# Altium footprint library Discrete.PcbLib: 34 footprints (part 2 of 3)
Each footprint in its own frame and in the unit in brackets; x right, y up, seen from the top. Pads: shape width x height; smd on the part's side, far side on the other; paste and mask are expansions set on the pad; w line width, h text height; cw(c..) or ccw(c..) is an arc to the next point about the centre after c.
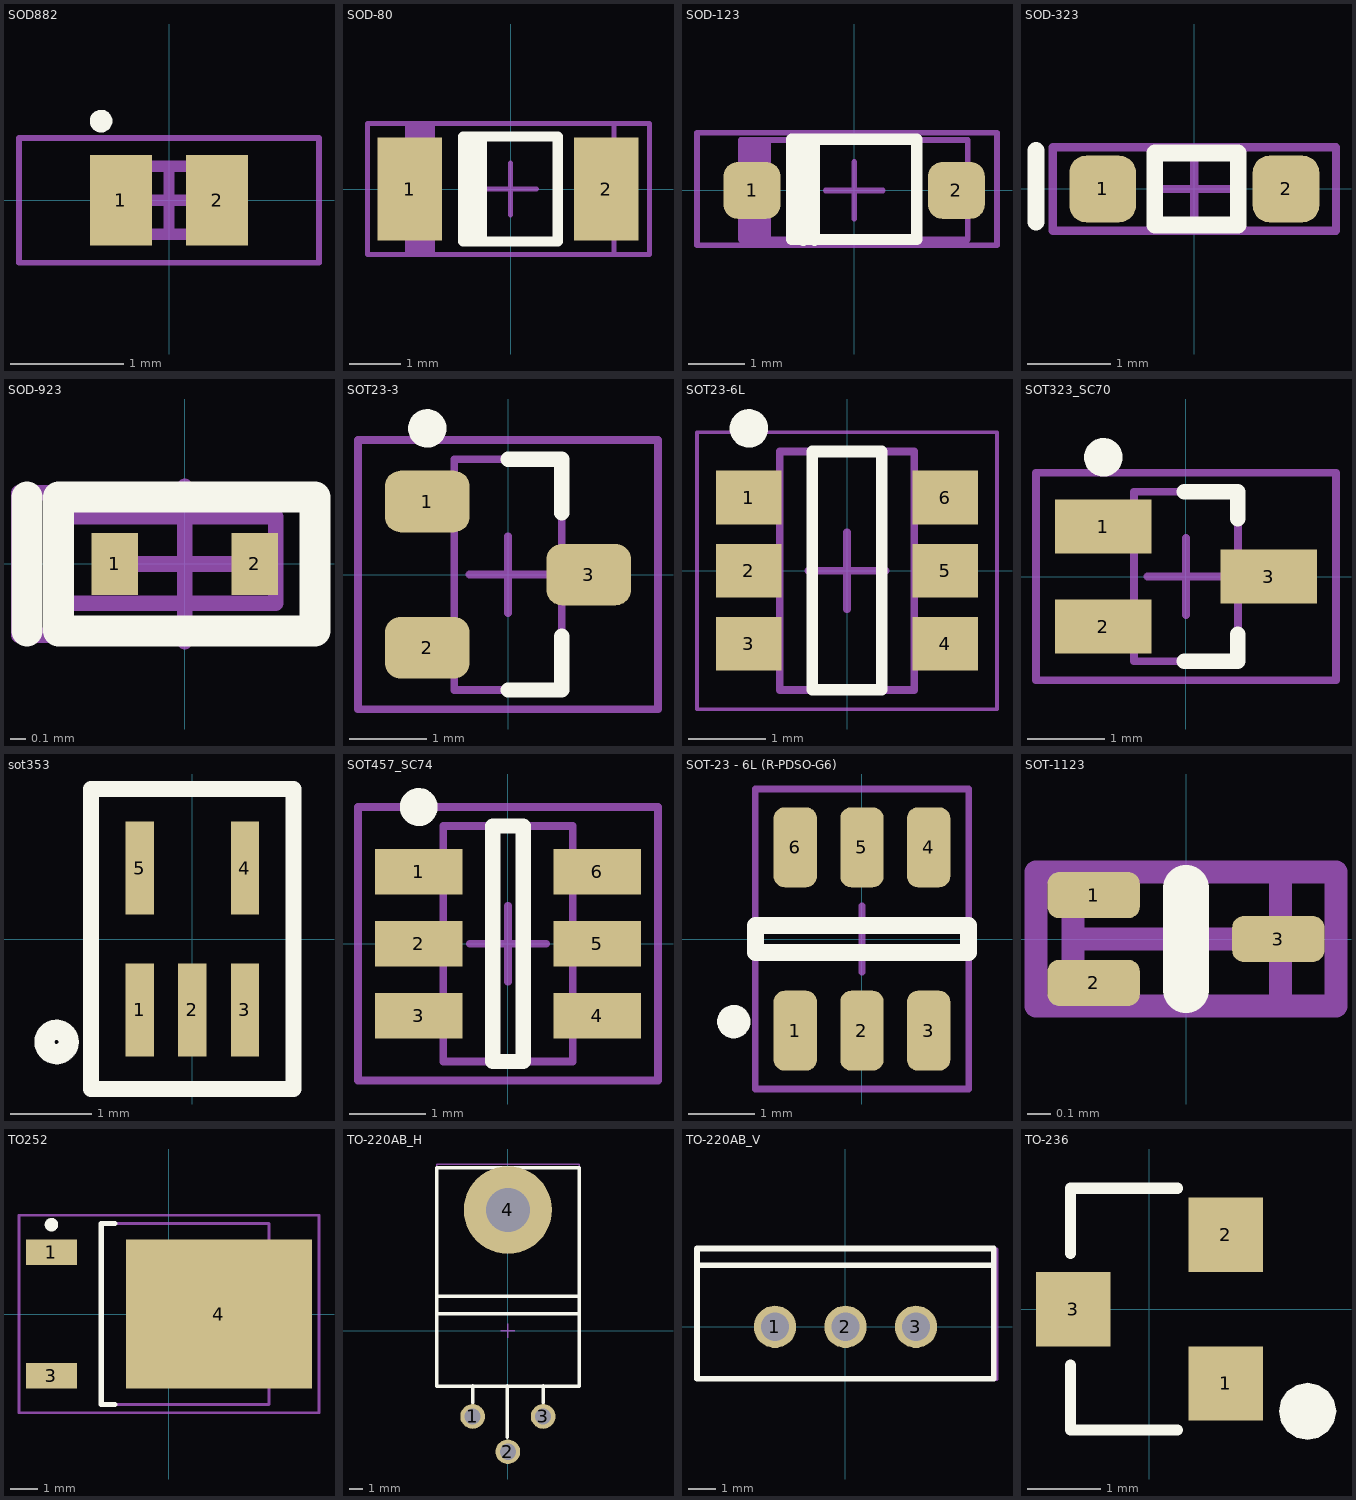
[diagram p1: the footprints below, top view; thin cyan lines are the x and y axes]

## SOD882 [mm] "SP3031 Series 0.8pF 10kV unidirectional Discrete TVS"
height 0.5
pads (2):
  rect 0.55x0.8 smd: 1(-0.425,0) 2(0.425,0)
Top Overlay:
  circle w0.1: c-0.6,0.7 r0.05
Mechanical 13:
  rectangle: -0.5,-0.3 -0.366,0.3
  lines w0.1: -0.5,-0.3 0.5,-0.3 0.5,0.3 -0.5,0.3 -0.5,-0.3
Mechanical 15:
  lines w0.05: -1.325,-0.55 1.325,-0.55 1.325,0.55 -1.325,0.55 -1.325,-0.55
  lines w0.1: -0.3,0 0.3,0 ; 0,-0.3 0,0.3
3D body: height 0.5, standoff 0, extent -0.5,-0.3 0.5,0.3

## SOD-80 [mm] "SOD-80"
height 2.29
pads (2):
  rect 1.25x2 smd: 1(-1.956,0) 2(1.854,0)
Top Overlay:
  lines w0.2: -0.711,-1.016 -0.711,1.016 ; -0.559,-1.016 -0.559,1.016 ; -0.914,-1.016 -0.914,1.016 0.914,1.016 0.914,-1.016 -0.914,-1.016
Mechanical 13:
  rectangle: -2,-1.27 -1.462,1.27
  lines w0.1: -2,-1.27 2,-1.27 2,1.27 -2,1.27 -2,-1.27
  text ".Designator" at -1.949,-0.244 h1.02
Mechanical 15:
  lines w0.1: -0.5,0 0.5,0 ; 0,-0.5 0,0.5 ; -2.769,-1.27 2.692,-1.27 2.692,1.27 -2.769,1.27 -2.769,-1.27
3D body: height 0.77, standoff -0.77, extent -1.727,-0.803 1.626,0.737

## SOD-123 [mm] "SOD-123"
height 2.29
pads (2):
  rrect50% 1x1 smd: 1(-1.8,0) 2(1.8,0)
Top Overlay:
  lines w0.2: -0.9,-0.882 -0.9,0.882 ; -0.7,-0.882 -0.7,0.882 ; -1.1,-0.864 -1.1,0.9 1.1,0.9 1.1,-0.864 -1.1,-0.864
Mechanical 13:
  rectangle: -2,-0.864 -1.462,0.862
  lines w0.1: -2,-0.864 -2,0.889 2,0.889 2,-0.864 -2,-0.864
  text ".Designator" at -2,-0.1 h0.5
Mechanical 15:
  lines w0.1: -0.5,0 0.5,0 ; 0,-0.5 0,0.5 ; -2.769,-0.965 -2.769,1.016 2.515,1.016 2.515,-0.965 -2.769,-0.965
3D body: height 1.42, standoff -0.03, extent -1.9,-0.838 1.95,0.862

## SOD-323 [mm]
height 2.29
pads (2):
  rrect50% 0.8x0.8 smd: 1(-1.1,0) 2(1.1,0)
Top Overlay:
  lines w0.2: -1.9,-0.4 -1.9,0.464 ; -0.475,-0.432 -0.475,0.432 0.526,0.432 0.526,-0.432 -0.475,-0.432
Mechanical 13:
  lines w0.1: -1.7,-0.5 1.7,-0.5 1.7,0.5 -1.7,0.5 -1.7,-0.5
  text ".Designator" at -1.753,0.66 h0.5
Mechanical 15:
  lines w0.1: -0.5,0 0.5,0 ; 0,-0.5 0,0.5 ; -1.7,-0.5 1.7,-0.5 1.7,0.5 -1.7,0.5 -1.7,-0.5
3D body: height 0.4, standoff 0, extent -0.475,-0.3 0.526,0.3

## SOD-923 [mm] "SOD-923"
height 2.29
pads (2):
  rect 0.3x0.4 smd: 1(-0.45,0) 2(0.45,0)
Top Overlay:
  lines w0.2: -1.016,-0.432 -1.016,0.432 ; -0.813,-0.432 0.838,-0.432 0.838,0.432 -0.813,0.432 -0.813,-0.432
Mechanical 13:
  lines w0.1: -0.762,-0.254 -0.762,0.305 0.584,0.305 0.584,-0.254 -0.762,-0.254
  text ".Designator" at -1.753,0.66 h0.5
Mechanical 15:
  lines w0.1: -0.5,0 0.5,0 ; 0,-0.5 0,0.5 ; -1.067,-0.457 -1.067,0.457 0.864,0.457 0.864,-0.457 -1.067,-0.457
3D body: height 0.4, standoff 0, extent -0.475,-0.3 0.526,0.3

## SOT23-3 [mm] "SOT23, 3-Leads, Body 3,0x2,6mm (max), Pitch 0,95mm, IPC Medium Density"
height 1.1
pads (3):
  rrect50% 1.1x0.8 smd: 1(-1.05,0.95) 2(-1.05,-0.95) 3(1.05,0)
Top Overlay:
  circle w0.25: c-1.05,1.9 r0.125
  lines w0.2: 0,-1.5 0.7,-1.5 0.7,-0.8 ; 0,1.5 0.7,1.5 0.7,0.8
Mechanical 13:
  lines w0.1: -0.7,-1.5 -0.7,1.5 0.7,1.5 0.7,-1.5 -0.7,-1.5
  text ".Designator" at -1.041,-1.448 h0.5
Mechanical 15:
  lines w0.1: -0.5,0 0.5,0 ; 0,-0.5 0,0.5 ; -1.95,-1.75 -1.95,1.75 1.95,1.75 1.95,-1.75 -1.95,-1.75
3D body: height 1, standoff 0, extent -1.275,-1.505 1.275,1.495

## SOT23-6L [mm] "SOT23, 6-Leads, Body 2,95x2,80mm, Pitch 0,95mm, IPC Medium Density"
height 1.18
pads (6):
  rect 0.85x0.7 smd: 1(-1.275,0.95) 2(-1.275,0) 3(-1.275,-0.95) 4(1.275,-0.95) 5(1.275,0) 6(1.275,0.95)
Top Overlay:
  circle w0.25: c-1.275,1.85 r0.125
  lines w0.15: -0.45,-1.55 0.45,-1.55 0.45,1.55 -0.45,1.55 -0.45,-1.55
Mechanical 13:
  lines w0.1: -0.875,-1.55 -0.875,1.55 0.875,1.55 0.875,-1.55 -0.875,-1.55
Mechanical 15:
  lines w0.05: -1.95,-1.8 -1.95,1.8 1.95,1.8 1.95,-1.8 -1.95,-1.8
  lines w0.1: -0.5,0 0.5,0 ; 0,-0.5 0,0.5
3D body: height 1.1, standoff -0.01, extent -1.422,-1.46 1.422,1.461

## SOT323_SC70 [mm] "SOT323 (SC70), 3-leads"
height 1
pads (3):
  rect 1.25x0.7 smd: 1(-1.075,0.65) 2(-1.075,-0.65) 3(1.075,0)
Top Overlay:
  circle w0.25: c-1.075,1.55 r0.125
  lines w0.2: -0.025,-1.1 0.675,-1.1 0.675,-0.75 ; -0.025,1.1 0.675,1.1 0.675,0.75
Mechanical 13:
  lines w0.1: -0.675,-1.1 0.675,-1.1 0.675,1.1 -0.675,1.1 -0.675,-1.1
  text ".Designator" at -1.949,-0.244 h1.02
Mechanical 15:
  lines w0.1: -0.5,0 0.5,0 ; 0,-0.5 0,0.5 ; -1.95,-1.35 1.95,-1.35 1.95,1.35 -1.95,1.35 -1.95,-1.35
3D body: height 1.1, standoff 0, extent -1.147,-1.105 1.098,1.095

## sot353 [mm] "sot353"
pads (5):
  rect 0.35x1.15 smd: 1(-0.65,-0.875) 2(0,-0.875) 3(0.65,-0.875) 4(0.65,0.875) 5(-0.65,0.875)
Top Overlay:
  circle w0.25: c-1.674,-1.27 r0.15
  lines w0.2: -1.25,-1.85 -1.25,1.85 1.25,1.85 1.25,-1.85 -1.25,-1.85
Mechanical 13:
  text ".Designator" at -1.949,-0.244 h1.02
3D body: height 1, standoff 0, extent -1.045,-1.155 1.055,1.145

## SOT457_SC74 [mm] "SOT457, SC74,, 6-Leads, Body 3.1x3.0mm (max), Pitch 0.95mm, IPC Medium Density"
height 1.1
pads (6):
  rect 1.15x0.6 smd: 1(-1.175,0.95) 2(-1.175,0) 3(-1.175,-0.95) 4(1.175,-0.95) 5(1.175,0) 6(1.175,0.95)
Top Overlay:
  circle w0.25: c-1.175,1.8 r0.125
  lines w0.2: -0.2,-1.55 -0.2,1.55 0.2,1.55 0.2,-1.55 -0.2,-1.55
Mechanical 13:
  lines w0.1: -0.85,-1.55 0.85,-1.55 0.85,1.55 -0.85,1.55 -0.85,-1.55
  text ".Designator" at -1.949,-0.244 h1.02
Mechanical 15:
  lines w0.1: -0.5,0 0.5,0 ; 0,-0.5 0,0.5 ; -1.975,-1.8 1.975,-1.8 1.975,1.8 -1.975,1.8 -1.975,-1.8
3D body: height 1.08, standoff -0.04, extent -1.437,-1.465 1.407,1.456

## SOT-23 - 6L (R-PDSO-G6) [mm] "SOT-23 - 6L(R-PDSO-G6)"
pads (6):
  rrect50% 0.65x1.2 smd: 1(-1,-1.375) 2(0,-1.375) 3(1,-1.375) 4(1,1.375) 5(0,1.375) 6(-1,1.375)
Top Overlay:
  circle w0.25: c-1.924,-1.24 r0.125
  lines w0.254: -1.6,-0.2 -1.6,0.2 1.6,0.2 1.6,-0.2 -1.6,-0.2
Mechanical 13:
  lines w0.051: -1.6,-2.25 1.6,-2.25 1.6,2.25 -1.6,2.25 -1.6,-2.25
  text ".Designator" at 0,-2 h0.5
Mechanical 15:
  lines w0.1: -0.5,0.125 0.5,0.125 ; 0,-0.5 0,0.5 ; -1.6,-2.25 1.6,-2.25 1.6,2.25 -1.6,2.25 -1.6,-2.25
3D body: height 1, standoff 0, extent -1.548,-0.514 1.5,0.502

## SOT-1123 [mm]
height 1.1
pads (3):
  rrect50% 0.4x0.2 smd mask+0.05: 1(-0.4,0.19) 2(-0.4,-0.19) 3(0.4,0)
Top Overlay:
  lines w0.2: 0,-0.22 0,0.22
Mechanical 13:
  lines w0.1: -0.49,-0.29 -0.49,0.29 0.41,0.29 0.41,-0.29 -0.49,-0.29
  text ".Designator" at -1.74,0.6 h0.5
Mechanical 15:
  lines w0.1: -0.49,0 0.41,0 ; 0,-0.29 0,0.29 ; -0.65,-0.29 -0.65,0.29 0.65,0.29 0.65,-0.29 -0.65,-0.29
3D body: height 0.4, standoff 0.05, extent -0.49,-0.29 0.41,0.29

## TO252 [mm] "D-PAK, 4-Leads, Body 6.1x6.6mm, Pitch 2.29mm, Lead Span 9.7mm, IPC Medium Density"
height 2.38
pads (3):
  rect 1.9x0.95 smd: 1(-4.35,2.28) 3(-4.35,-2.28)
  rect 6.9x5.5 smd: 4(1.85,0)
Top Overlay:
  circle w0.25: c-4.35,3.305 r0.125
  lines w0.2: -2,-3.35 -2.5,-3.35 -2.5,3.35 -2,3.35
Mechanical 13:
  lines w0.1: -2.5,-3.35 -2.5,3.35 3.7,3.35 3.7,-3.35 -2.5,-3.35
  text ".Designator" at -2.067,-0.084 h0.5
Mechanical 15:
  lines w0.1: -0.5,0 0.5,0 ; 0,-0.5 0,0.5 ; -5.55,-3.65 -5.55,3.65 5.55,3.65 5.55,-3.65 -5.55,-3.65
3D body: height 2.38, standoff 0, extent -2.499,-3.349 3.699,3.349

## TO-220AB_H [mil] "TO-220AB_H"
pads (4):
  round 70 hole 46: 1(-100,-243) 2(0,-343) 3(100,-243)
  round 250 hole 125: 4(0,343)
Top Overlay:
  lines w10: -202,48 202,48 ; -202,98 202,98 ; -100,-203.63 -100,-156.39 ; -1.57,-302.06 -1.57,-156.39 ; 100.79,-203.63 100.79,-156.39 ; -202,-157 202,-157 202,463 -202,463 -202,-157
Mechanical 13:
  lines w2: -202.36,-156.39 -202.36,473.54 203.15,473.54 203.15,-156.39 -202.36,-156.39
  text ".Designator" at 7.87,47.24 h19.68
Mechanical 15:
  lines w3.94: -19.68,0 19.69,0 ; 0,-19.68 0,19.69 ; -202.36,-156.39 -202.36,473.54 203.15,473.54 203.15,-156.39 -202.36,-156.39
3D body: height 165.35, standoff -118.11, extent -200.79,-300.98 199.21,466.34

## TO-220AB_V [mil] "TO-220AB_V"
pads (3):
  round 60 hole 40: 1(-100,0) 2(0,0) 3(100,0)
Top Overlay:
  lines w7.87: -210.63,87.49 210.63,87.49 ; -210.63,-73.93 210.63,-73.93 210.63,111.11 -210.63,111.11 -210.63,-73.93
Mechanical 13:
  lines w2: -210.24,-74.8 -210.24,110.24 211.02,110.24 211.02,-74.8 -210.24,-74.8
  text ".Designator" at -70.87,50.09 h19.68
Mechanical 15:
  lines w3.94: -19.68,0 19.69,0 ; 0,-19.68 0,19.69 ; -210.24,-74.8 -210.24,110.24 214.96,110.24 214.96,-74.8 -210.24,-74.8
3D body: height 759.86, standoff -357.46, extent -190,-78.74 190,98.43

## TO-236 [mil] "TO-236"
pads (3):
  rect 40x40 smd: 1(41,-40) 2(41,40) 3(-41,0)
Top Overlay:
  pour cut-out: 100.29,-55 99.13,-49.15 95.81,-44.19 90.85,-40.87 85,-39.71 79.15,-40.87 74.19,-44.19 70.87,-49.15 69.71,-55 70.87,-60.85 74.19,-65.81 79.15,-69.13 85,-70.29 90.85,-69.13 95.81,-65.81 99.13,-60.85
  lines w6: -42.5,-30 -42.5,-65 15,-65 ; -42.5,30 -42.5,65 15,65